# EAGLE library part 621X1421821 (library Board-to-Board (rev18a))
WR-PHD 2.00mm Dual SMT Socket Header Low Profile, 14 Pins=>Code : Con_BTB_SHD_2.00_2_621x1421821(Packaging:x = 0: Tube x = 3: Tape & Reel with Cap) <http://katalog.we-online.de/media/thumbs2/eican/thb_Con_BTB_SHD_2.00_2_6210xx21821_pf2.jpg> 6210xx21821 Details see: http://katalog.we-online.de/en/em/PHD_2_0_SMT_DUAL_SOCKET_HEADER_LOW_PROFILE_6210XX21821 6213xx21821 Details see: http://katalog.we-online.de/en/em/PHD_2_0_SMT_DUAL_SOCKET_HEADER_LOW_PROFILE_REEL_6213XX21821 2014 (C) Würth Elektronik
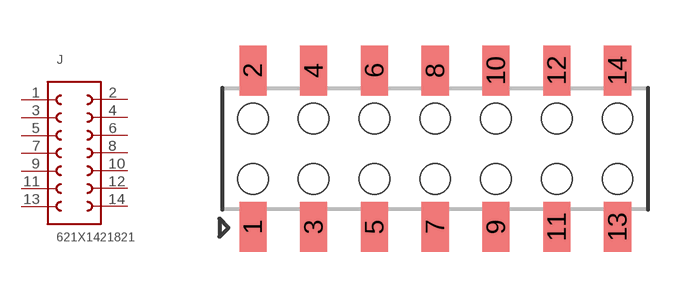
[diagram p267: symbol with the pads of 621X1421821; footprint 621X1421821]

Designator prefix J

## 621X1421821  [621X1421821]
1  1  pas
2  14  pas
3  2  pas
4  13  pas
5  3  pas
6  12  pas
7  4  pas
8  11  pas
9  5  pas
10  10  pas
11  6  pas
12  9  pas
13  7  pas
14  8  pas

## Footprint 621X1421821 (pad centres in mm)
WR-PHD 2.00mm Dual SMT Socket Header Low Profile, 14 Pins
smd 0.89 x 1.65: 1 -6,-2.575; 2 -6,2.575; 3 -4,-2.575; 4 -4,2.575; 5 -2,-2.575; 6 -2,2.575; 7 0,-2.575; 8 0,2.575; 9 2,-2.575; 10 2,2.575; 11 4,-2.575; 12 4,2.575; 13 6,-2.575; 14 6,2.575
hole 1 at -6,1
hole 1 at -6,-1
hole 1 at -4,1
hole 1 at -4,-1
hole 1 at -2,-1
hole 1 at -2,1
hole 1 at 0,1
hole 1 at 0,-1
hole 1 at 2,1
hole 1 at 2,-1
hole 1 at 4,1
hole 1 at 6,1
hole 1 at 6,-1
hole 1 at 4,-1